# Altium schematic symbol library S1D13700.Schlib: 1 symbol
Pins are listed as number, name and electrical type; pins without a type are passive.

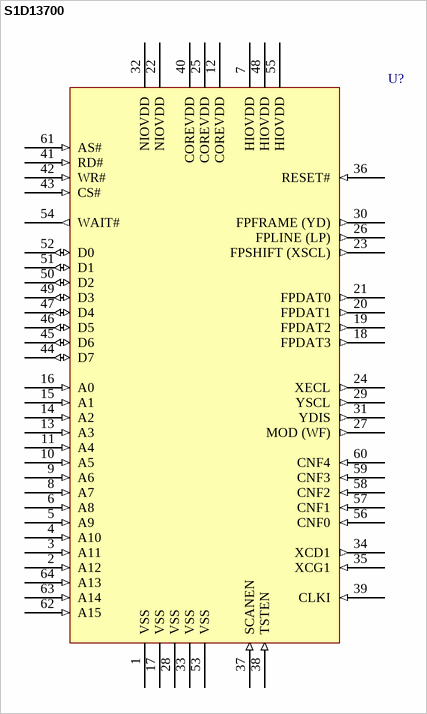
[diagram p0: symbol S1D13700]

## S1D13700
designator U?
IC, Graphics LCD Controller
pins: 1 VSS (power) "Ground", 2 A12 (in), 3 A11 (in), 4 A10 (in), 5 A9 (in), 6 A8 (in), 7 HIOVDD (power), 8 A7 (in), 9 A6 (in), 10 A5 (in), 11 A4 (in), 12 COREVDD (power), 13 A3 (in), 14 A2 (in), 15 A1 (in), 16 A0 (in), 17 VSS (power), 18 FPDAT3 (out), 19 FPDAT2 (out), 20 FPDAT1 (out), 21 FPDAT0 (out), 22 NIOVDD (power), 23 FPSHIFT (XSCL) (out), 24 XECL (out), 25 COREVDD (power), 26 FPLINE (LP) (out), 27 MOD (WF) (out), 28 VSS (power), 29 YSCL (out), 30 FPFRAME (YD) (out), 31 YDIS (out), 32 NIOVDD (power), 33 VSS (power), 34 XCD1 (out), 35 XCG1 (in), 36 RESET# (in), 37 SCANEN (in), 38 TSTEN (in), 39 CLKI (in), 40 COREVDD (power), 41 RD# (in), 42 WR# (in), 43 CS# (in), 44 D7 (io), 45 D6 (io), 46 D5 (io), 47 D4 (io), 48 HIOVDD (power), 49 D3 (io), 50 D2 (io), 51 D1 (io), 52 D0 (io), 53 VSS (power), 54 WAIT# (out), 55 HIOVDD (power), 56 CNF0 (in), 57 CNF1 (in), 58 CNF2 (in), 59 CNF3 (in), 60 CNF4 (in), 61 AS# (in), 62 A15 (in), 63 A14 (in), 64 A13 (in)